# EAGLE library part 749119350 (library Wurth_Power Magnetics_WE-POE)
WE-PoE Power over Ethernet Transformer Characteristics Flyback transformer designed for PoE PDs Input voltage: 36 V to 57 V Switching frequencies: 200–500 kHz Operating temperature: –40 ºC to +125 ºC Isolation voltage: 1.5 kVAC/1 min Different output powers and voltages available Applications PoE powered devices IP Phones WLAN Access Points Access control terminals Security cameras <https://www.we-online.com/components/media/o766301v209%20Family-POE.jpg> Details see: www.we-online.com/en/components/products/WE-POE <www.we-online.com/catalog/WE-POE/?utm_source=eagle_model&utm_medium=description_link&utm_campaign=eisos_eagle> Updated by Ella 2024-01-09 2024 (C) Wurth Elektronik
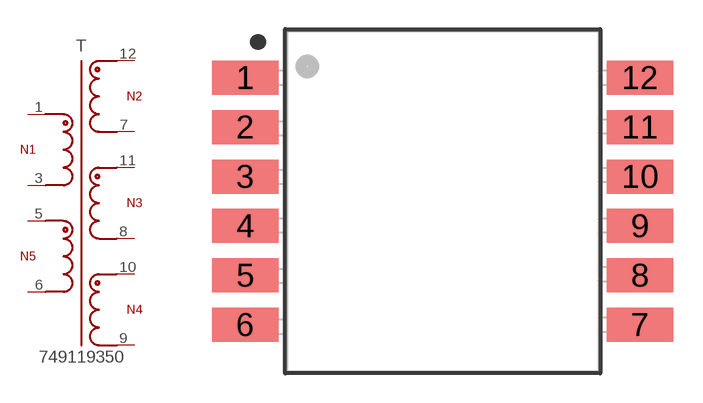
[diagram p34: symbol with the pads of WE-POE_EFD15; footprint WE-POE_EFD15]

Designator prefix T

## 749119350 (DATASHEET-URL: https://www.we-online.com/redexpert/spec/749119350?ae; IO1: 0.9A; IO2: 0.9A; IO3: 0.9A; L: 120uH; MOUNT: SMT; N: 7.2:1:1:1:1.8; PART-NUMBER: 749119350; SIZE: EFD15; VALUE: 749119350; VERSION: Flyback; VIN: 36 - 57 V (DC); VO1: 5V; VO2: 5V; VO3: 5V; VT: 1500V(AC))  [WE-POE_EFD15]
1  1  pas
3  3  pas
5  5  pas
6  6  pas
7  7  pas
8  8  pas
9  9  pas
10  10  pas
11  11  pas
12  12  pas

## Footprint WE-POE_EFD15 (pad centres in mm)
WE-PoE Power over Ethernet Transformer EFD15, SMT, 12Pins
smd 3.43 x 1.75: 1 -10.155,6.35; 2 -10.155,3.81; 3 -10.155,1.27; 4 -10.155,-1.27; 5 -10.155,-3.81; 6 -10.155,-6.35; 7 10.155,-6.35; 8 10.155,-3.81; 9 10.155,-1.27; 10 10.155,1.27; 11 10.155,3.81; 12 10.155,6.35